# Altium integrated library gps_moduels.IntLib: 2 symbols
Pins are listed as number, name and electrical type; pins without a type are passive.

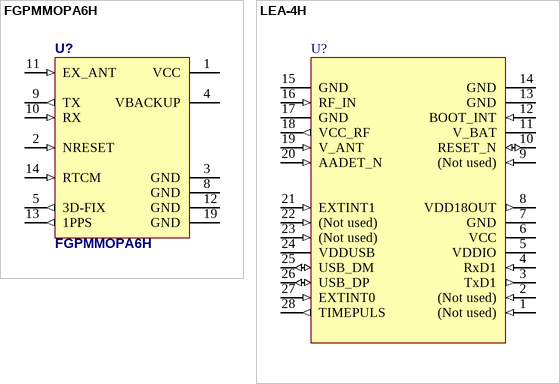
[diagram p0: symbols FGPMMOPA6H to LEA-4H]

## FGPMMOPA6H
designator U?
GlobalTop ultra-compact, MT3329 Based, Patch On Top GSP Module
footprint FGPMMOPA6H
pins: 1 VCC (power), 2 NRESET (in), 3 GND (power), 4 VBACKUP (power), 5 3D-FIX (out), 8 GND (power), 9 TX (out), 10 RX (in), 11 EX_ANT (in), 12 GND, 13 1PPS (out), 14 RTCM (in), 19 GND

## LEA-4H
designator U?
GPS Receiver Module; Published: 01-Feb-2006; PackageReference: LEA-4H
footprint LEA-4H (GPS Receiver Module)
pins: 1 (Not used) (in), 2 (Not used) (in), 3 TxD1 (out), 4 RxD1 (in), 5 VDDIO (power), 6 VCC (power), 7 GND (power), 8 VDD18OUT (out), 9 (Not used) (in), 10 RESET_N (io), 11 V_BAT (power), 12 BOOT_INT (in), 13 GND (power), 14 GND (power), 15 GND (power), 16 RF_IN (in), 17 GND (power), 18 VCC_RF (out), 19 V_ANT (in), 20 AADET_N (in), 21 EXTINT1 (in), 22 (Not used) (in), 23 (Not used) (in), 24 VDDUSB (power), 25 USB_DM (io), 26 USB_DP (io), 27 EXTINT0 (in), 28 TIMEPULS (out)